# Altium schematic symbol library QUTMS_PowerSupplyLibrary.SchLib: 1 symbol
Pins are listed as number, name and electrical type; pins without a type are passive.

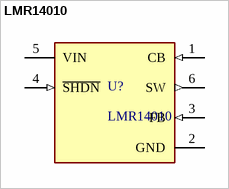
[diagram p0: symbol LMR14010]

## LMR14010
designator U?
footprint LMR14010
pins: 1 CB (in), 2 GND (power), 3 FB (in), 4 ~{SHDN} (in), 5 VIN (power), 6 SW (out)